# Altium schematic symbol library uln2003.SchLib: 1 symbol
Pins are listed as number, name and electrical type; pins without a type are passive.

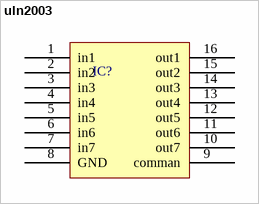
[diagram p0: symbol uln2003]

## uln2003
designator IC?, comment uln2003?  (value not drawn)
footprint Model Name (Footprint not found)
footprint uln2003
pins: 1 in1, 2 in2, 3 in3, 4 in4, 5 in5, 6 in6, 7 in7, 8 GND, 9 comman, 10 out7, 11 out6, 12 out5, 13 out4, 14 out3, 15 out2, 16 out1